# EAGLE library part LONGAN-NANO (library 2020-08-18 Motor Board)
Longan Nano MCU:GD32VF103CBT6
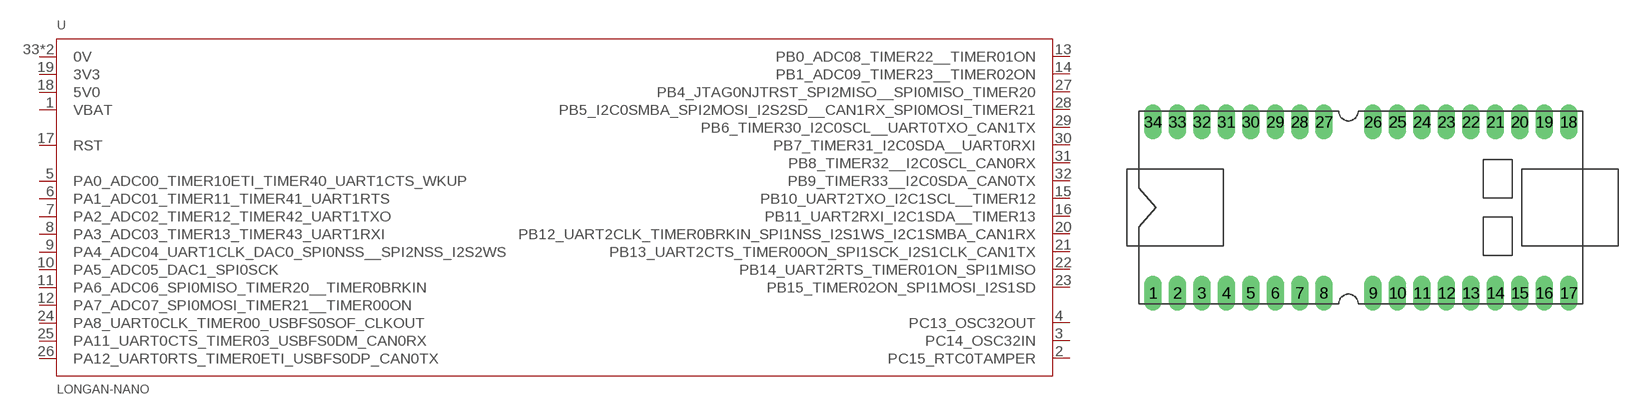
[diagram p2: symbol with the pads of LONGAN-NANO; footprint LONGAN-NANO]

Designator prefix -

## LONGAN-NANO  [LONGAN-NANO]
1  VBAT  pwr
2  PC15_RTC0TAMPER
3  PC14_OSC32IN
4  PC13_OSC32OUT
5  PA0_ADC00_TIMER10ETI_TIMER40_UART1CTS_WKUP
6  PA1_ADC01_TIMER11_TIMER41_UART1RTS
7  PA2_ADC02_TIMER12_TIMER42_UART1TXO
8  PA3_ADC03_TIMER13_TIMER43_UART1RXI
9  PA4_ADC04_UART1CLK_DAC0_SPI0NSS__SPI2NSS_I2S2WS
10  PA5_ADC05_DAC1_SPI0SCK
11  PA6_ADC06_SPI0MISO_TIMER20__TIMER0BRKIN
12  PA7_ADC07_SPI0MOSI_TIMER21__TIMER00ON
13  PB0_ADC08_TIMER22__TIMER01ON
14  PB1_ADC09_TIMER23__TIMER02ON
15  PB10_UART2TXO_I2C1SCL__TIMER12
16  PB11_UART2RXI_I2C1SDA__TIMER13
17  RST
18  5V0  pwr
19  3V3  pwr
20  PB12_UART2CLK_TIMER0BRKIN_SPI1NSS_I2S1WS_I2C1SMBA_CAN1RX
21  PB13_UART2CTS_TIMER00ON_SPI1SCK_I2S1CLK_CAN1TX
22  PB14_UART2RTS_TIMER01ON_SPI1MISO
23  PB15_TIMER02ON_SPI1MOSI_I2S1SD
24  PA8_UART0CLK_TIMER00_USBFS0SOF_CLKOUT
25  PA11_UART0CTS_TIMER03_USBFS0DM_CAN0RX
26  PA12_UART0RTS_TIMER0ETI_USBFS0DP_CAN0TX
27  PB4_JTAG0NJTRST_SPI2MISO__SPI0MISO_TIMER20
28  PB5_I2C0SMBA_SPI2MOSI_I2S2SD__CAN1RX_SPI0MOSI_TIMER21
29  PB6_TIMER30_I2C0SCL__UART0TXO_CAN1TX
30  PB7_TIMER31_I2C0SDA__UART0RXI
31  PB8_TIMER32__I2C0SCL_CAN0RX
32  PB9_TIMER33__I2C0SDA_CAN0TX
33  0V  pwr
34  0V  pwr

## Footprint LONGAN-NANO (pad centres in mm)
Size: 20.0x46.1mm Pins: 34 2x8x2.54mm +2x9x2.54mm
drill 1.2 long: 1 -20.32,-8.89; 2 -17.78,-8.89; 3 -15.24,-8.89; 4 -12.7,-8.89; 5 -10.16,-8.89; 6 -7.62,-8.89; 7 -5.08,-8.89; 8 -2.54,-8.89; 9 2.54,-8.89; 10 5.08,-8.89; 11 7.62,-8.89; 12 10.16,-8.89; 13 12.7,-8.89; 14 15.24,-8.89; 15 17.78,-8.89; 16 20.32,-8.89; 17 22.86,-8.89; 18 22.86,8.89; 19 20.32,8.89; 20 17.78,8.89; 21 15.24,8.89; 22 12.7,8.89; 23 10.16,8.89; 24 7.62,8.89; 25 5.08,8.89; 26 2.54,8.89; 27 -2.54,8.89; 28 -5.08,8.89; 29 -7.62,8.89; 30 -10.16,8.89; 31 -12.7,8.89; 32 -15.24,8.89; 33 -17.78,8.89; 34 -20.32,8.89